# EAGLE library part NODEMCU (library 42Bots)
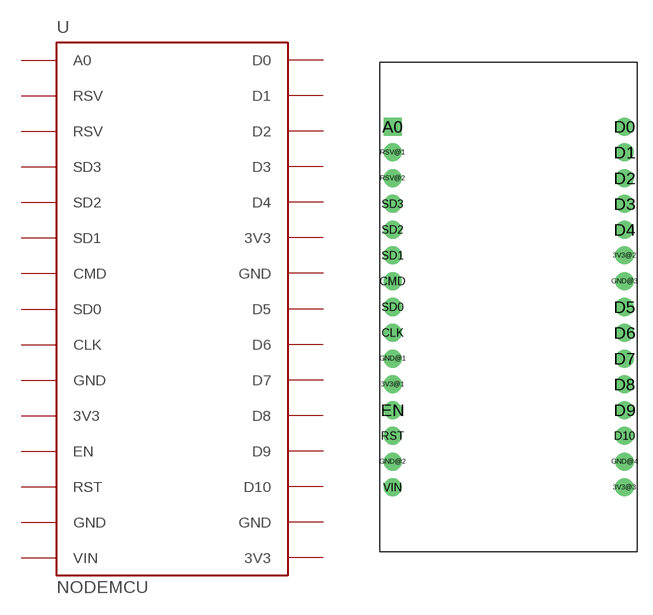
[diagram p0: symbol with the pads of NODEMCU; footprint NODEMCU]

Designator prefix -

## NODEMCU  [NODEMCU]
3V3@1  3V3
3V3@2  3V3
3V3@3  3V3
A0  A0
CLK  CLK
CMD  CMD
D0  D0
D1  D1
D2  D2
D3  D3
D4  D4
D5  D5
D6  D6
D7  D7
D8  D8
D9  D9
D10  D10
EN  EN
GND@1  GND
GND@2  GND
GND@3  GND
GND@4  GND
RST  RST
RSV@1  RSV
RSV@2  RSV
SD0  SD0
SD1  SD1
SD2  SD2
SD3  SD3
VIN  VIN

## Footprint NODEMCU (pad centres in mm)
drill 0.8 pad 1.778: 3V3@1 1.27,-31.75; 3V3@2 24.13,-19.05; 3V3@3 24.13,-41.91; CLK 1.27,-26.67; CMD 1.27,-21.59; D0 24.13,-6.35; D1 24.13,-8.89; D2 24.13,-11.43; D3 24.13,-13.97; D4 24.13,-16.51; D5 24.13,-24.13; D6 24.13,-26.67; D7 24.13,-29.21; D8 24.13,-31.75; D9 24.13,-34.29; D10 24.13,-36.83; EN 1.27,-34.29; GND@1 1.27,-29.21; GND@2 1.27,-39.37; GND@3 24.13,-21.59; GND@4 24.13,-39.37; RST 1.27,-36.83; RSV@1 1.27,-8.89; RSV@2 1.27,-11.43; SD0 1.27,-24.13; SD1 1.27,-19.05; SD2 1.27,-16.51; SD3 1.27,-13.97; VIN 1.27,-41.91
drill 0.8 pad 1.778 square: A0 1.27,-6.35